# Altium schematic symbol library mycomponents.SchLib: 46 symbols
Pins are listed as number, name and electrical type; pins without a type are passive.

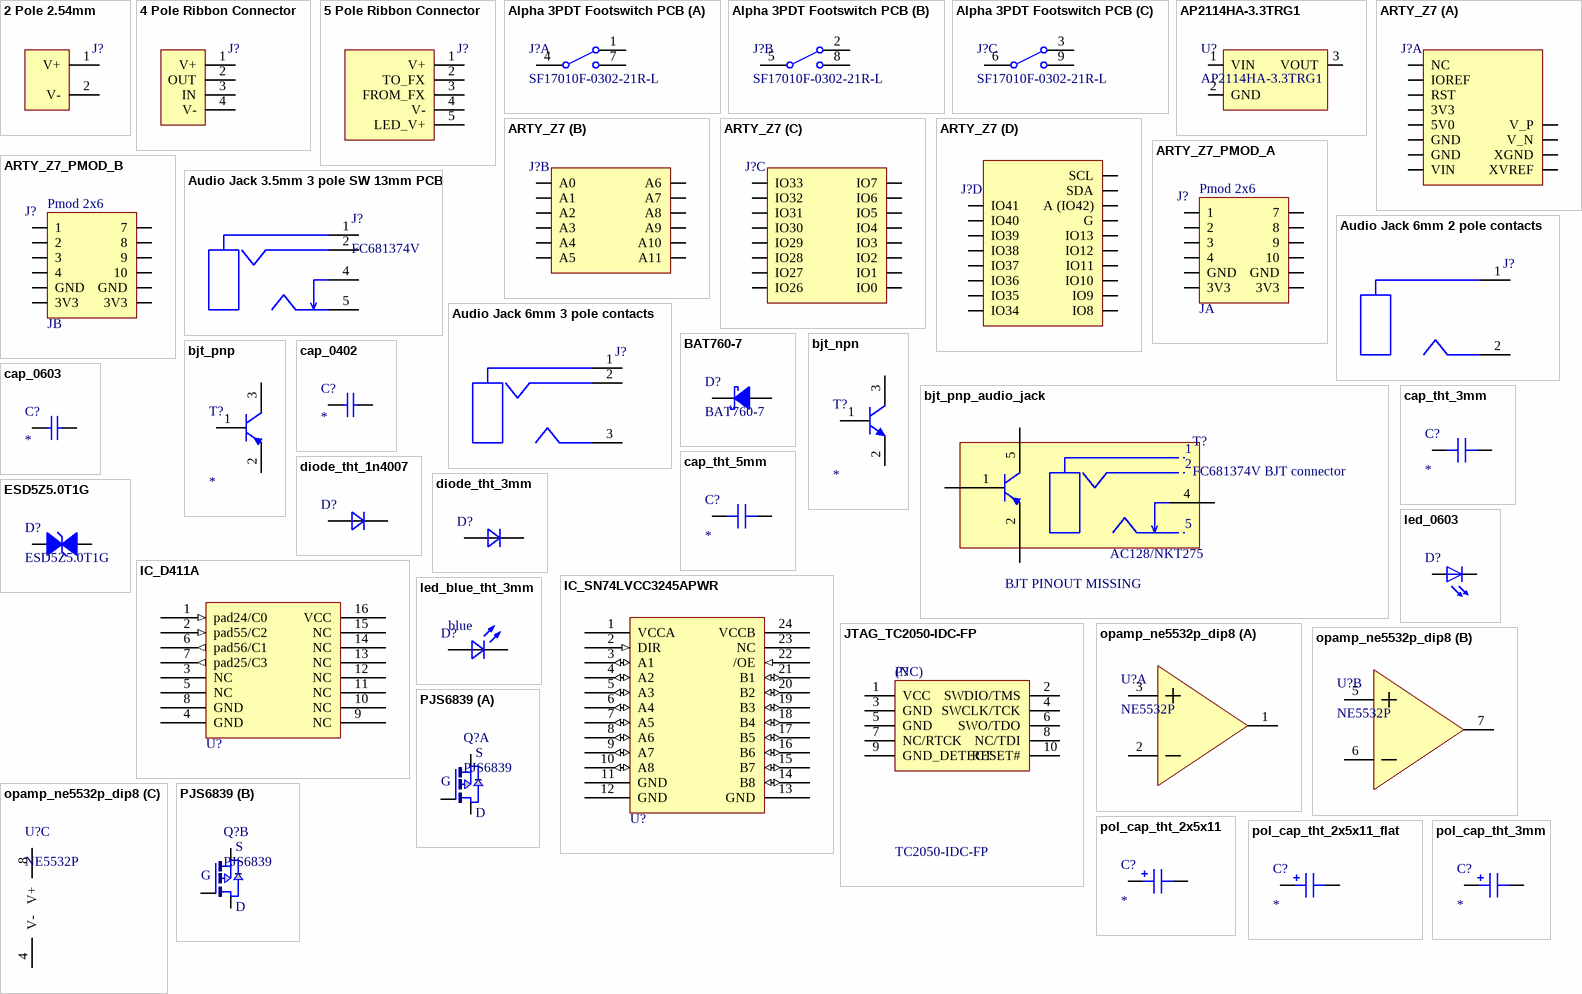
[diagram p0: symbols 2 Pole 2.54mm to pol_cap_tht_3mm]

## 2 Pole 2.54mm
designator J?  (no BOM)
Solder contacts for a 2.54mm connector
footprint 2.54mm_2pole
pins: 1 V+, 2 V-

## 4 Pole Ribbon Connector
designator J?  (no BOM)
Solder contacts for a 1.27mm ribbon cable
footprint 1.27mm_4pole
pins: 1 V+, 2 OUT, 3 IN, 4 V-

## 5 Pole Ribbon Connector
designator J?  (no BOM)
Solder contacts for a 1.27mm ribbon cable
footprint 1.27mm_5pole_edge
pins: 1 V+, 2 TO_FX, 3 FROM_FX, 4 V-, 5 LED_V+

## Alpha 3PDT Footswitch PCB
designator J?, comment SF17010F-0302-21R-L
Alpha Footswitch 3PDT, PCB; Manufacturer: Alpha; Supplier: Tube Town; ComponentLink1Description: Supplier Link; ComponentLink1URL: https://www.tube-town.net/ttstore/alpha-fussschalter-3-pol-wechsler-pcb.html; ComponentLink2Description: Manufacturer Link; ComponentLink2URL: http://www.taiwanalpha.com/en/products/8?cat=61#alpha_display; ComponentLink3Description: Datasheet Link; ComponentLink3URL: http://www.taiwanalpha.com/downloads?target=products&id=242; Price: 3.98; Manufacturer Part Number: SF17010F-0302-21R-L; Supplier Part Number: xsw24
footprint SF17010F-0302-21R-L (Alpha 3PDT Footswitch)
part A pins: 1, 4, 7
part B pins: 2, 5, 8
part C pins: 3, 6, 9

## AP2114HA-3.3TRG1
designator U?
PMIC - Spannungsregler - Linear Positiv Fest 1 Ausgang 1A SOT-223-3
footprint SOT223
pins: 1 VIN, 2 GND, 3 VOUT

## ARTY_Z7
designator J?  (no BOM)
Connections to Arty Z7 SoC Board
footprint arty-z7 (Arty Z7 SoC Board Connector)
part A pins: 0 NC, 1 IOREF, 2 RST, 3 3V3, 4 5V0, 5 GND, 6 GND, 7 VIN, 8 XVREF, 9 XGND, 10 V_N, 11 V_P
part B pins: 12 A0, 13 A1, 14 A2, 15 A3, 16 A4, 17 A5, 18 A11, 19 A10, 20 A9, 21 A8, 22 A7, 23 A6
part C pins: 24 IO33, 25 IO32, 26 IO31, 27 IO30, 28 IO29, 29 IO28, 30 IO27, 31 IO26, 32 IO0, 33 IO1, 34 IO2, 35 IO3, 36 IO4, 37 IO5, 38 IO6, 39 IO7
part D pins: 40 IO41, 41 IO40, 42 IO39, 43 IO38, 44 IO37, 45 IO36, 46 IO35, 47 IO34, 48 IO8, 49 IO9, 50 IO10, 51 IO11, 52 IO12, 53 IO13, 54 G, 55 A (IO42), 56 SDA, 57 SCL

## ARTY_Z7_PMOD_A
designator J?  (no BOM)
Connections to Arty Z7 SoC Board
footprint arty-z7-pmod (Arty Z7 SoC Board Connector)
pins: 0 1, 1 2, 2 3, 3 4, 4 GND, 5 3V3, 6 3V3, 7 GND, 8 10, 9, 10 8, 11 7
text: Pmod 2x6; JA

## ARTY_Z7_PMOD_B
designator J?  (no BOM)
Connections to Arty Z7 SoC Board
footprint arty-z7-pmod (Arty Z7 SoC Board Connector)
pins: 0 1, 1 2, 2 3, 3 4, 4 GND, 5 3V3, 6 3V3, 7 GND, 8 10, 9, 10 8, 11 7
text: Pmod 2x6; JB

## Audio Jack 3.5mm 3 pole SW 13mm PCB
designator J?, comment FC681374V
Cliff Audio Jack 3.5mm 3 pole switched 13mm height PCB mount (or panel mount); Manufacturer: Cliff; Supplier: Distrelec; Manufacturer Part Number: FC681374V; Supplier Part Number: 300-10-093; Price: 2.37; ComponentLink1Description: Supplier Link; ComponentLink1URL: https://www.distrelec.at/de/einbau-stereoklinkenbuchse-mm-vertikal-mm-pole-cliff-fc681374v/p/30010093?utm_source=octopart&utm_medium=comparison-engines&utm_campaign=price-comparison&ext_cid=ceoctaqatde-loc; ComponentLink2Description: Datasheet Link; ComponentLink2URL: https://www.farnell.com/datasheets/1869285.pdf
footprint FC681374V (3.5mm audio jack SW PCB)
pins: 1, 2, 4, 5

## Audio Jack 6mm 2 pole contacts
designator J?  (no BOM)
Solder contacts for a 6mm mono audio jack
footprint 2.54mm_2pole
pins: 1, 2

## Audio Jack 6mm 3 pole contacts
designator J?  (no BOM)
Solder contacts for a 6mm stereo audio jack
footprint 2.54mm_3pole
pins: 1, 2, 3

## BAT760-7
designator D?
30V 1A, Vf=495mV @ 1A, Ir=50µA @ 15V Schottky Diode; Manufacturer: Diodes Incorporated; Supplier: Digikey; Price: 0,48; Manufacturer Part Number: BAT760-7; Supplier Part Number: BAT760DICT-ND; ComponentLink1Description: Supplier Link; ComponentLink1URL: https://www.digikey.at/de/products/detail/diodes-incorporated/BAT760-7/697106; ComponentLink2Description: Manufacturer Link; ComponentLink2URL: *; ComponentLink3Description: Datasheet Link; ComponentLink3URL: https://www.diodes.com/assets/Datasheets/BAT760.pdf
footprint sod-323
pins: 1 K, 2 A

## bjt_npn
designator T?
Value: *
pins: 1 B, 2 E, 3 C

## bjt_pnp
designator T?
Value: *
pins: 1 B, 2 E, 3 C

## bjt_pnp_audio_jack
designator T?, comment FC681374V BJT connector  value AC128/NKT275
Cliff Audio Jack 3.5mm 3 pole switched 13mm height PCB mount (or panel mount) / AC128 or NKT275 / For Flexi Fuzz guitar pedal; Manufacturer: Cliff; Supplier: Distrelec; Manufacturer Part Number: FC681374V; Supplier Part Number: 300-10-093; Price: 2.37; ComponentLink1Description: Supplier Link; ComponentLink1URL: https://www.distrelec.at/de/einbau-stereoklinkenbuchse-mm-vertikal-mm-pole-cliff-fc681374v/p/30010093?utm_source=octopart&utm_medium=comparison-engines&utm_campaign=price-comparison&ext_cid=ceoctaqatde-loc; ComponentLink2Description: Datasheet Link; ComponentLink2URL: https://www.farnell.com/datasheets/1869285.pdf
footprint FC681374V (3.5mm audio jack SW PCB)
pins: 1 B, 2 E, 4, 5 C
text: BJT PINOUT MISSING

## cap_0402
designator C?
Value: *
footprint res_0402
pins: 1, 2

## cap_0603
designator C?
Value: *
footprint cap_0603
pins: 1, 2

## cap_tht_3mm
designator C?
Value: *
pins: 1, 2

## cap_tht_5mm
designator C?
ceramic cap / Anschlussabstand: 5mm / 0.5mm lead diameter; Supplier: Farnell; Menufacturer: *; Manufacturer Part Numer: *; Supplier Part Number: *; Price: *; ComponentLink1Description: Manufacturer Link; ComponentLink1URL: *; ComponentLink2Description: Supplier Link; ComponentLink2URL: https://at.farnell.com/w/c/passive-bauelemente/kondensatoren/keramikkondensatoren/keramik-vielschichtkondensatoren-mlcc-bedrahtet?anschlussabstand=5mm&range=inc-in-stock|exc-delivery-surcharge|exc-obs; ComponentLink3Description: Datasheet Link; ComponentLink3URL: *; Value: *
footprint CAP_5mm
pins: 1, 2

## diode_tht_1n4007
designator D?
Manufacturer: onsemi; Manufacturer Part Number: 1N4007RLG; Supplier: Farnell; Supplier Part Number: 2317417; Price: 0.321; ComponentLink1Description: Manufacturer Link; ComponentLink1URL: *; ComponentLink2Description: Supplier Link; ComponentLink2URL: https://at.farnell.com/on-semiconductor/1n4007rlg/diode-std-erholzeit-1a-1kv-axial/dp/2317417; ComponentLink3Description: Datasheet Link; ComponentLink3URL: https://4donline.ihs.com/images/VipMasterIC/IC/ONSM/ONSM-S-A0013576855/ONSM-S-A0013902349-1.pdf?hkey=6D3A4C79FDBF58556ACFDE234799DDF0
footprint diode_tht
pins: 1, 2

## diode_tht_3mm
designator D?
pins: 1, 2

## ESD5Z5.0T1G
designator D?
2.5V 5A, Vf=1.1V @ 10mA, Ir=6µA @ 2.5V ESD Protection Diode; Manufacturer: onsemi; Supplier: Digikey; Price: 0,19; Manufacturer Part Number: ESD5Z5.0T1G; Supplier Part Number: ESD5Z5.0T1GOSCT-ND; ComponentLink1Description: Supplier Link; ComponentLink1URL: https://www.digikey.at/de/products/detail/onsemi/ESD5Z5-0T1G/1476609; ComponentLink2Description: Manufacturer Link; ComponentLink2URL: *; ComponentLink3Description: Datasheet Link; ComponentLink3URL: https://www.onsemi.com/pdf/datasheet/esd5z2.5t1-d.pdf
pins: 1 K, 2 A

## IC_D411A
designator U?  (value not drawn)  (net tie, no BOM)
SNES CIC Chip; ComponentLink1Description: info; ComponentLink1URL: https://wiki.superfamicom.org/cic
footprint DIP16
pins: 1 pad24/C0 (in), 2 pad55/C2 (in), 3 NC (power), 4 GND (power), 5 NC (power), 6 pad56/C1 (out), 7 pad25/C3 (out), 8 GND (power), 9 NC (power), 10 NC (power), 11 NC (power), 12 NC (power), 13 NC (power), 14 NC (power), 15 NC (power), 16 VCC (power)

## IC_SN74LVCC3245APWR
designator U?  (value not drawn)
Bus-Transceiver, Produktreihe LVC, 8 Eingänge, 50mA, 7ns, 2.3V bis 5.5V, TSSOP 24; Manufacturer 1: TEXAS INSTRUMENTS; ComponentLink3Description: datsheet; ComponentLink3URL: http://www.ti.com/lit/ds/symlink/sn74lvcc3245a.pdf; ComponentLink4Description: farnell; ComponentLink4URL: https://at.farnell.com/texas-instruments/sn74lvcc3245apwr/bus-transceiver-8bit-tssop-24/dp/2854646?rpsku=rel3%3A2119962&st=2119962; Supplier 1: Farnell; Supplier Part Number 1: 2854646; Manufacturer Part Number 1: SN74LVCC3245APWR; Supplier Unit Price 1: 0,99; Supplier Order Qty 1: 1
footprint TSSOP24
pins: 1 VCCA (power), 2 DIR (in), 3 A1 (io), 4 A2 (io), 5 A3 (io), 6 A4 (io), 7 A5 (io), 8 A6 (io), 9 A7 (io), 10 A8 (io), 11 GND (power), 12 GND (power), 13 GND (power), 14 B8 (io), 15 B7 (io), 16 B6 (io), 17 B5 (io), 18 B4 (io), 19 B3 (io), 20 B2 (io), 21 B1 (io), 22 /OE (in), 23 NC, 24 VCCB (power)

## JTAG_TC2050-IDC-FP
designator P?, comment TC2050-IDC-FP  Remark: (NC)  (no BOM)
Tag-Connect JTAG Footprint with LEGS
footprint JTAG_TC2050-IDC-FP (Footprint not found)
pins: 1 VCC, 2 SWDIO/TMS, 3 GND, 4 SWCLK/TCK, 5 GND, 6 SWO/TDO, 7 NC/RTCK, 8 NC/TDI, 9 GND_DETECT, 10 RESET#

## led_0603
designator D?
Green 3,2V 20mA; Manufacturer: Würth Elektronik; Manufacturer Part Number: 150060GS75000; Supplier: Digikey; Price: 0,14; Supplier Part Number: 732-4971-1-ND; ComponentLink1Description: Supplier Link; ComponentLink1URL: https://www.digikey.at/de/products/detail/w%C3%BCrth-elektronik/150060GS75000/4489898; ComponentLink2Description: Manufacturer Link; ComponentLink2URL: *; ComponentLink3Description: Datasheet Link; ComponentLink3URL: https://www.we-online.com/components/products/datasheet/150060GS75000.pdf
footprint led0603_GREEN (LED Green, 2-Leads, Body 1.6x0.8mm)
pins: 1 A, 2 C

## led_blue_tht_3mm
designator D?  value blue
Durchlassstrom If: 20mA / Durchlassspannung: 3.7V; Manufacturer: Forge; Manufacturer Part Number: FNL-U300B22CDSL; Supplier: Farnell; Supplier Part Number: 1200580; Price: 0.784; ComponentLink1Description: Supplier Link; ComponentLink1URL: https://at.farnell.com/forge/fnl-u300b22cdsl/led-3mm-blau/dp/1200580; ComponentLink2Description: Datasheet Link; ComponentLink2URL: https://www.farnell.com/datasheets/1508743.pdf
footprint led_3mm
pins: 1 anode, 2 kathode

## opamp_ne5532p_dip8
designator U?, comment NE5532P
Manufacturer: Texas Instruments; Supplier: Farnell; Supplier Part Number: 3117314; Manufacturer Part Number: NE5532P; Price: 0.836; ComponentLink1Description: Manufacturer Link; ComponentLink1URL: *; ComponentLink2Description: Supplier Link; ComponentLink2URL: https://at.farnell.com/texas-instruments/ne5532p/op-amp-dual-low-noise-5532-dip8/dp/3117314?st=ne5532; ComponentLink3Description: Datasheet Link; ComponentLink3URL: https://datasheet.octopart.com/NE5532P-Texas-Instruments-datasheet-83579903.pdf
footprint dip8
part A pins: 1 OUT1, 2 IN-1, 3 IN+1
part B pins: 5 IN+2, 6 IN-2, 7 OUT2
part C pins: 4 V-, 8 V+

## PJS6839
designator Q?
MOSFET P-CH 60V 300mA SOT-23-6; Manufacturer: Panjit International Inc.; Manufacturer Part Number: PJS6839_S1_00001; Supplier: Digikey; Supplier Part Number: 3757-PJS6839_S1_00001CT-ND; Price: 0.28; ComponentLink1Description: Datasheet; ComponentLink1URL: https://www.panjit.com.tw/upload/datasheet/PJS6839.pdf; ComponentLink2Description: Supplier; ComponentLink2URL: https://www.digikey.at/en/products/detail/panjit-international-inc/PJS6839-S1-00001/15799236; Value: PJS6839
footprint SOT23-6
part A pins: 1 G1, 5 S1, 6 D1
part B pins: 2 S2, 3 G2, 4 D2
part A text: S; G; D
part B text: S; G; D

## pol_cap_tht_2x5x11
designator C?
Kondensatoranschlüsse: Radial bedrahtet / Anschlussabstand: 2mm / Produktdurchmesser: 5mm / Produkthöhe: 11mm / Anschlussdurchmesser: 0.5mm; Manufacturer: *; Supplier: Farnell; Manufacturer Part Number: *; Supplier Part Number: *; Price: *; ComponentLink1Description: Manufacturer Link; ComponentLink1URL: *; ComponentLink2Description: Supplier Link; ComponentLink2URL: https://at.farnell.com/w/c/passive-bauelemente/kondensatoren/aluminium-elektrolytkondensatoren/bedrahtete-aluminium-elektrolytkondensatoren?kapazitat=1uf|2.2uf|10uf|22uf|100uf&spannung-dc-=10v|16v|25v|35v|50v|63v|100v&kondensatoranschlusse=radial-bedrahtet&anschlussabstand=2mm&produktdurchmesser=5mm&produkthohe=11mm&anschlussdurchmesser=0.5mm&range=inc-in-stock|exc-delivery-surcharge|exc-obs; ComponentLink3Description: Datasheet Link; ComponentLink3URL: *; Value: *
footprint pol_cap_2x5x11_0.5_rad
pins: 1, 2

## pol_cap_tht_2x5x11_flat
designator C?
Kondensatoranschlüsse: Radial bedrahtet / Anschlussabstand: 2mm / Produktdurchmesser: 5mm / Produkthöhe: 11mm / Anschlussdurchmesser: 0.5mm; Manufacturer: *; Supplier: Farnell; Manufacturer Part Number: *; Supplier Part Number: *; Price: *; ComponentLink1Description: Manufacturer Link; ComponentLink1URL: *; ComponentLink2Description: Supplier Link; ComponentLink2URL: https://at.farnell.com/w/c/passive-bauelemente/kondensatoren/aluminium-elektrolytkondensatoren/bedrahtete-aluminium-elektrolytkondensatoren?kapazitat=1uf|2.2uf|10uf|22uf|100uf&spannung-dc-=10v|16v|25v|35v|50v|63v|100v&kondensatoranschlusse=radial-bedrahtet&anschlussabstand=2mm&produktdurchmesser=5mm&produkthohe=11mm&anschlussdurchmesser=0.5mm&range=inc-in-stock|exc-delivery-surcharge|exc-obs; ComponentLink3Description: Datasheet Link; ComponentLink3URL: *; Value: *
footprint pol_cap_2x5x11_0.5_rad_flat
pins: 1, 2

## pol_cap_tht_3mm
designator C?
Value: *
pins: 1, 2

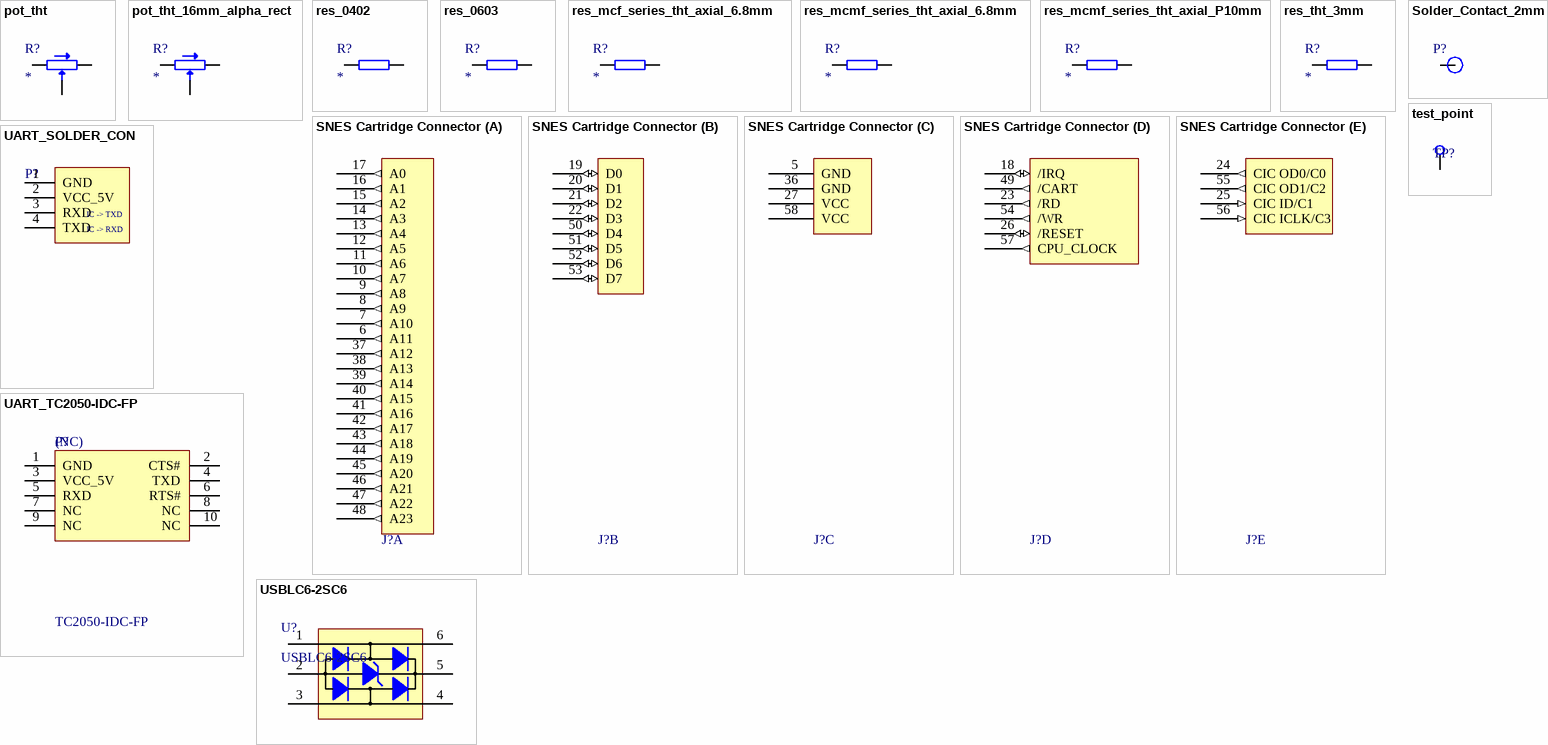
[diagram p1: symbols pot_tht to USBLC6-2SC6]

## pot_tht
designator R?
Value: *
pins: 1, 2, 3

## pot_tht_16mm_alpha_rect
designator R?
Alpha Potentiometer 16mm rectangular PCB mount; Manufacturer Part Number: RV16AF-41; Manufacturer: Alpha; Supplier: Tube Town; Supplier Part Number: apo16AF; Price: 1.41; ComponentLink1Description: Supplier Link; ComponentLink1URL: https://www.tube-town.net/ttstore/potentiometer-alpha-16-pcb-100k-linear-abgewinkelt.html; ComponentLink2Description: Manufacturer Link; ComponentLink3Description: Datasheet Link; ComponentLink3URL: https://electricdruid.net/wp-content/uploads/2016/12/Taiwan-Alpha-16mm-pots-datasheet.pdf; Value: *
footprint alpha_16mm_rect
pins: 1, 2, 3

## res_0402
designator R?
Value: *
footprint res_0402
pins: 1, 2

## res_0603
designator R?
Value: *
footprint res_0603
pins: 1, 2

## res_mcf_series_tht_axial_6.8mm
designator R?
coal; Manufacturer: Multicomp Pro; Manufacturer Part Number: MCF 0.25W 47R; ComponentLink1Description: Supplier Link; ComponentLink1URL: https://at.farnell.com/w/c/passive-bauelemente/festwiderstande/widerstande-fur-durchsteckmontage?brand=multicomp-pro&produktpalette=mcf&produktlange=6.8mm&range=inc-in-stock|exc-delivery-surcharge|exc-obs; ComponentLink2Description: Datasheet Link; ComponentLink2URL: https://www.farnell.com/datasheets/3436052.pdf; Supplier: Farnell; Supplier Part Number: 9339523; Value: *
footprint res_6.8mm_axial
pins: 1, 2

## res_mcmf_series_tht_axial_6.8mm
designator R?
metal oxide / Produktpalette: MCMF / Produktdurchmesser: 2.5mm / Produktlänge: 6.8mm; Manufacturer: Multicomp Pro; Manufacturer Part Number: MCMF006FF1002A50; ComponentLink1Description: Supplier Link; ComponentLink1URL: https://at.farnell.com/w/c/passive-bauelemente/festwiderstande/widerstande-fur-durchsteckmontage?brand=multicomp-pro&produktpalette=mcmf&widerstandstechnologie=metallschichtwiderstand&produktlange=6.8mm&range=inc-in-stock|exc-delivery-surcharge|exc-obs; ComponentLink2Description: Datasheet Link; ComponentLink2URL: https://www.farnell.com/datasheets/2863892.pdf; Supplier: Farnell; Supplier Part Number: 2401780; Value: *
footprint res_6.8mm_axial
pins: 1, 2

## res_mcmf_series_tht_axial_P10mm
designator R?
metal oxide / Produktpalette: MCMF / Produktdurchmesser: 2.5mm / Produktlänge: 6.8mm; Manufacturer: Multicomp Pro; Manufacturer Part Number: MCMF006FF1002A50; ComponentLink1Description: Supplier Link; ComponentLink1URL: https://at.farnell.com/w/c/passive-bauelemente/festwiderstande/widerstande-fur-durchsteckmontage?brand=multicomp-pro&produktpalette=mcmf&widerstandstechnologie=metallschichtwiderstand&produktlange=6.8mm&range=inc-in-stock|exc-delivery-surcharge|exc-obs; ComponentLink2Description: Datasheet Link; ComponentLink2URL: https://www.farnell.com/datasheets/2863892.pdf; Supplier: Farnell; Supplier Part Number: 2401780; Value: *
footprint res_P10mm_axial
pins: 1, 2

## res_tht_3mm
designator R?
Value: *
pins: 1, 2

## SNES Cartridge Connector
designator J?  (value not drawn)  (net tie, no BOM)
footprint SNES Cartridge Connector
part A pins: 6 A11 (out), 7 A10 (out), 8 A9 (out), 9 A8 (out), 10 A7 (out), 11 A6 (out), 12 A5 (out), 13 A4 (out), 14 A3 (out), 15 A2 (out), 16 A1 (out), 17 A0 (out), 37 A12 (out), 38 A13 (out), 39 A14 (out), 40 A15 (out), 41 A16 (out), 42 A17 (out), 43 A18 (out), 44 A19 (out), 45 A20 (out), 46 A21 (out), 47 A22 (out), 48 A23 (out)
part B pins: 19 D0 (io), 20 D1 (io), 21 D2 (io), 22 D3 (io), 50 D4 (io), 51 D5 (io), 52 D6 (io), 53 D7 (io)
part C pins: 5 GND (power), 27 VCC (power), 36 GND (power), 58 VCC (power)
part D pins: 18 /IRQ (io), 23 /RD (out), 26 /RESET (io), 49 /CART (out), 54 /WR (out), 57 CPU_CLOCK (out)
part E pins: 24 CIC OD0/C0 (out), 25 CIC ID/C1 (in), 55 CIC OD1/C2 (out), 56 CIC ICLK/C3 (in)

## Solder_Contact_2mm
designator P?
footprint SINGLE_SOLDER_CON
pins: 1

## test_point
designator TP?  (no BOM)
pins: 1 TP

## UART_SOLDER_CON
designator P?  (no BOM)
footprint UART_SOLDER_CON
pins: 1 GND, 2 VCC_5V, 3 RXD, 4 TXD
text: IC -> TXD; IC -> RXD

## UART_TC2050-IDC-FP
designator P?, comment TC2050-IDC-FP  Remark: (NC)  (no BOM)
Tag-Connect JTAG Footprint with LEGS
footprint JTAG_TC2050-IDC-FP (Footprint not found)
pins: 1 GND, 2 CTS#, 3 VCC_5V, 4 TXD, 5 RXD, 6 RTS#, 7 NC, 8 NC, 9 NC, 10 NC

## USBLC6-2SC6
designator U?
2.5V 5A, Vf=1.1V @ 10mA, Ir=6µA @ 2.5V ESD Protection Diode; Manufacturer: STMicroelectronics; Supplier: Digikey; Price: 0,32; Manufacturer Part Number: USBLC6-2SC6; Supplier Part Number: 497-5235-1-ND; ComponentLink1Description: Supplier Link; ComponentLink1URL: https://www.digikey.at/de/products/detail/stmicroelectronics/USBLC6-2SC6/1040559; ComponentLink2Description: Manufacturer Link; ComponentLink2URL: *; ComponentLink3Description: Datasheet Link; ComponentLink3URL: https://www.st.com/content/ccc/resource/technical/document/datasheet/06/1d/48/9c/6c/20/4a/b2/CD00050750.pdf/files/CD00050750.pdf/jcr:content/translations/en.CD00050750.pdf
footprint sot23-6l
pins: 1, 2, 3, 4, 5, 6